# EAGLE library part A4988 (library parts)
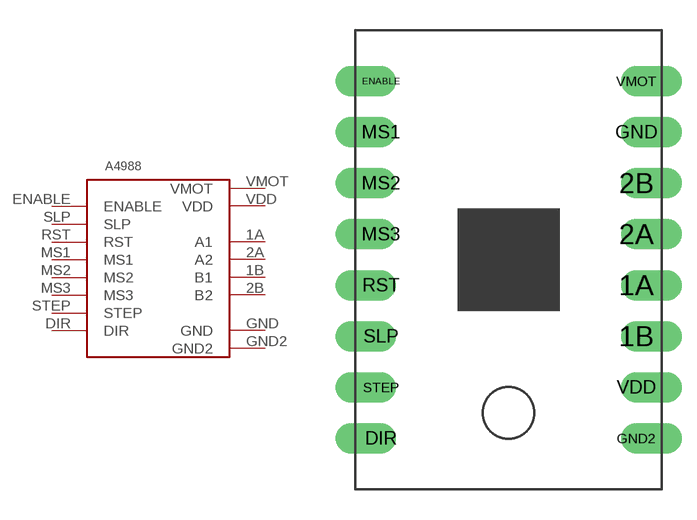
[diagram p0: symbol with the pads of A4988; footprint A4988]

Designator prefix -

## A4988  [A4988]
1A  A1
1B  B1
2A  A2
2B  B2
DIR  DIR
ENABLE  ENABLE
GND  GND
GND2  GND2
MS1  MS1
MS2  MS2
MS3  MS3
RST  RST
SLP  SLP
STEP  STEP
VDD  VDD
VMOT  VMOT

## Footprint A4988 (pad centres in mm)
drill 1 offset: 1A 6.35,-1.27; 1B 6.35,-3.81; 2A 6.35,1.27; 2B 6.35,3.81; DIR -6.35,-8.89; ENABLE -6.35,8.89; GND 6.35,6.35; GND2 6.35,-8.89; MS1 -6.35,6.35; MS2 -6.35,3.81; MS3 -6.35,1.27; RST -6.35,-1.27; SLP -6.35,-3.81; STEP -6.35,-6.35; VDD 6.35,-6.35; VMOT 6.35,8.89